# Altium footprint library PCB - IND - ATCA08251MH.PCBLIB: 1 footprints
Each footprint in its own frame and in the unit in brackets; x right, y up, seen from the top. Pads: shape width x height; smd on the part's side, far side on the other; paste and mask are expansions set on the pad; w line width, h text height; cw(c..) or ccw(c..) is an arc to the next point about the centre after c.
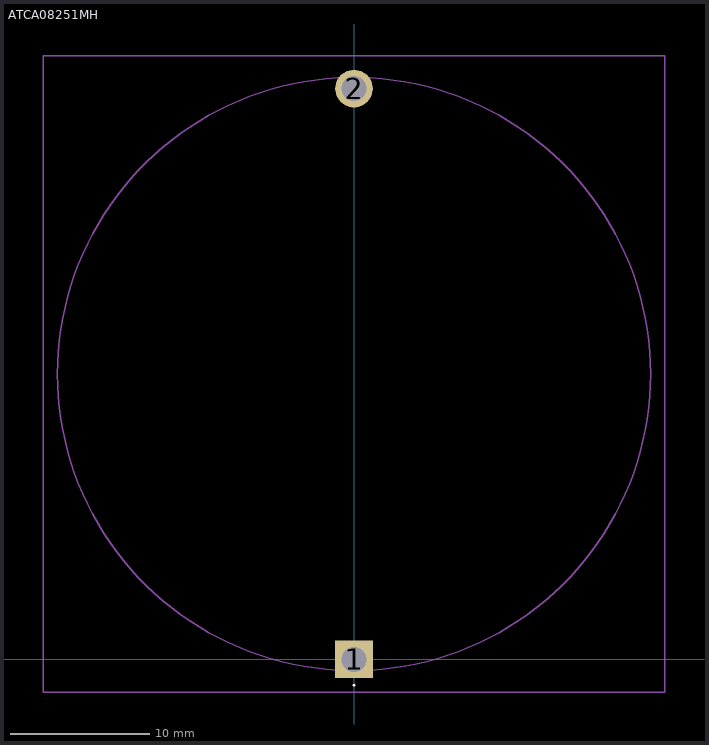
[diagram p0: the footprint, top view; thin cyan lines are the x and y axes]

## ATCA08251MH [mm]
pads (2):
  rect 2.7x2.7 hole 1.8: 1(0,0)
  round 2.7 hole 1.8: 2(0,40.9)
Top Overlay:
  lines w0.1: 0,-1.9 cw(c0,-1.85) 0,-1.8 cw(c0,-1.85) 0,-1.9
Top Value (Mech13):
  lines w0.1: -21.25,20.45 ccw(c0,20.45) 21.25,20.45 ccw(c0,20.45) -21.25,20.45
Mechanical 15:
  lines w0.1: -22.25,-2.35 22.25,-2.35 22.25,43.25 -22.25,43.25 -22.25,-2.35
3D body "ATCA-08-251M-H.stp": height 21.6, standoff -5, extent -21.25,-0.8 21.25,41.7